# Altium schematic symbol library Test_Point_1mm.SchLib: 1 symbol
Pins are listed as number, name and electrical type; pins without a type are passive.

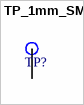
[diagram p0: symbol TP_1mm_SMT]

## TP_1mm_SMT
designator TP?, comment 1mm  (value not drawn)  (no BOM)
Test Point Pad 1 mm round
footprint Test_Point_1mm (Test Point SMT 1mm Round)
pins: 1